# Altium schematic symbol library TPS23751PWPR.SchLib: 1 symbol
Pins are listed as number, name and electrical type; pins without a type are passive.

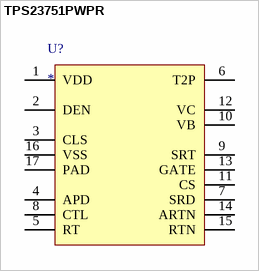
[diagram p0: symbol TPS23751PWPR]

## TPS23751PWPR
designator U?
footprint SOP65P640X120-17N
pins: 1 VDD, 2 DEN, 3 CLS, 4 APD, 5 RT, 6 T2P, 7 SRD, 8 CTL, 9 SRT, 10 VB, 11 CS, 12 VC, 13 GATE, 14 ARTN, 15 RTN, 16 VSS, 17 PAD